# Altium schematic symbol library capacitor.SchLib: 28 symbols
Pins are listed as number, name and electrical type; pins without a type are passive.

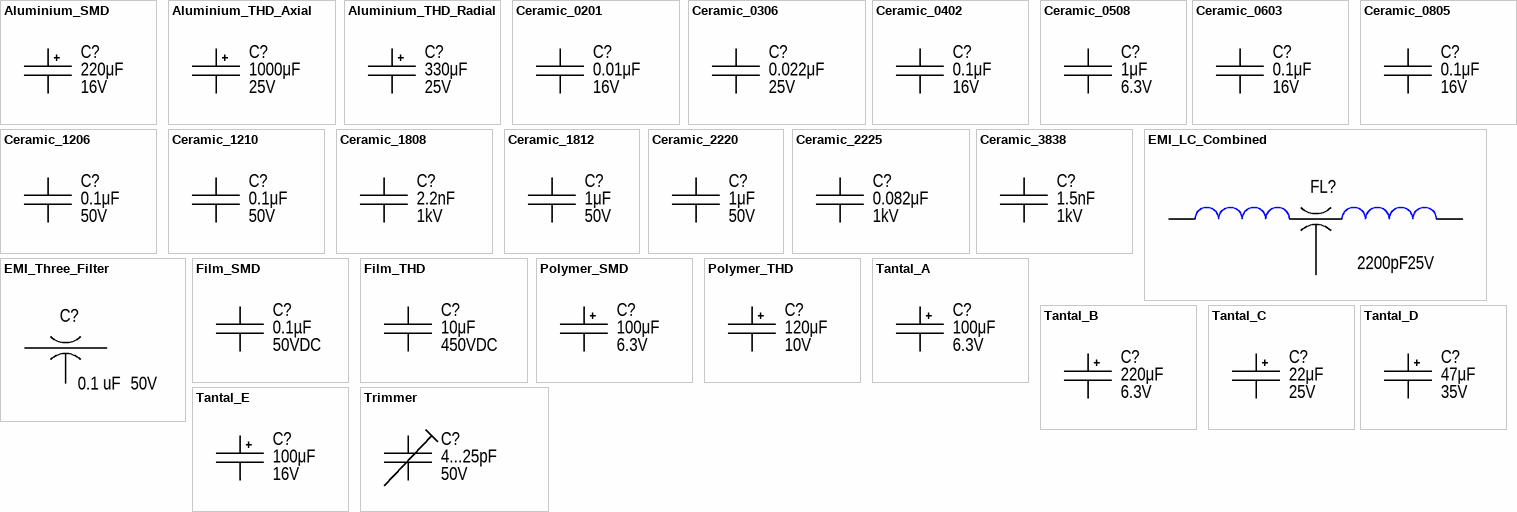
[diagram p0: symbols Aluminium_SMD to Trimmer]

## Aluminium_SMD
designator C?  value 220μF  Voltage: 16V
Manufacturer: Panasonic; PartNumber: EEE-FP1C221AV; ValueManufacturerPartNumber: Aluminium capacitor, 220μF, 16V, ±20%, 180mOhm, 8.3x8.3x6.5mm, -55...+105°C; TypeCapacitor: Aluminium capacitor; Tolerance: ±20%; Impedance: 180mOhm; Package: 8.3x8.3x6.5mm; HelpURL: https://www.mouser.com/ProductDetail/Panasonic/EEE-FP1C221AV?qs=PzGy0jfpSMsiLAFC1mqhUg%3D%3D; Temperature: -55...+105°C
footprint CAPAE_LW4.3_D4.0_H5.4 (Capacitor, Aluminium Electrolytric, 4.3mm L X 4.3mm W X 5.4mm H, IPC Medium Density)
footprint CAPAE_LW5.3_D5.0_H5.4 (Capacitor, Aluminium Electrolytric, 5.3mm L X 5.3mm W X 5.4mm H, IPC Medium Density)
footprint CAPAE_LW6.6_D6.3_H5.4 (Capacitor, Aluminium Electrolytric, 6.6mm L X 6.6mm W X 5.4mm H, IPC Medium Density)
footprint CAPAE_LW8.3_D8.0_H6.2 (Capacitor, Aluminium Electrolytric, 8.3mm L X 8.3mm W X 6.2mm H, IPC Medium Density)
footprint CAPAE_LW8.3_D8.0_H10.2 (Capacitor, Aluminium Electrolytric, 8.3mm L X 8.3mm W X 10.2mm H, IPC Medium Density)
footprint CAPAE_LW10.3_D10.0_H10.2 (Capacitor, Aluminium Electrolytric, 10.3mm L X 10.3mm W X 10.2mm H, IPC Medium Density)
footprint CAPAE_LW10.3_D10.0_H12.7 (Capacitor, Aluminium Electrolytric, 10.3mm L X 10.3mm W X 12.7mm H, IPC Medium Density)
footprint CAPAE_LW13.5_D12.5_H14.3 (Capacitor, Aluminium Electrolytric, 13.5mm L X 13.5mm W X 14.3mm H, IPC Medium Density)
footprint CAPAE_LW17.0_D16.0_H16.8 (Capacitor,Aluminum Electrolytic; 17.00mm L X 17.00mm W X 16.80mm H , IPC Medium Density)
footprint CAPAE_LW17.0_D16.0_H17 (Capacitor,Aluminum Electrolytic; 17.00mm L X 17.00mm W X 17.00mm H , IPC Medium Density)
footprint CAPAE_LW19.0_D18.0_H16.8 (Capacitor,Aluminum Electrolytic; 19.00mm L X 19.00mm W X 16.80mm H , IPC Medium Density)
footprint CAPAE_LW19.0_D18.0_H17 (Capacitor,Aluminum Electrolytic; 19.00mm L X 19.00mm W X 17.00mm H , IPC Medium Density)
pins: 1, 2

## Aluminium_THD_Axial
designator C?  value 1000μF  Voltage: 25V
Manufacturer: Vishay; PartNumber: MAL212516102E3; ValueManufacturerPartNumber: Aluminium capacitor, 1000μF, 25V, ±20%, 212mOhm, 30x10x35.5 mm, -40...+105°C; TypeCapacitor: Aluminium capacitor; Tolerance: ±20%; Impedance: 212mOhm; Package: 30x10x35.5 mm; HelpURL: https://www.mouser.com/ProductDetail/Vishay-BC-Components/MAL212516102E3?qs=TiOZkKH1s2R9wr5iii%2FqJQ%3D%3D; Temperature: -40...+105°C
footprint CAPAE-A-S15.24-L10.5D5.0 (Capacitor Axial, Pin spacing 15.24mm - Body Length 10.5mm X Body Diameter 5.0mm)
footprint CAPAE-A-S15.24-L10.5D6.3 (Capacitor Axial, Pin spacing 15.24mm - Body Length 10.5mm X Body Diameter 6.3mm)
footprint CAPAE-A-S16.51-L11.5D8.5 (Capacitor Axial, Pin spacing 16.51mm - Body Length 11.5mm X Body Diameter 8.5mm)
footprint CAPAE-A-S19.05-L15.49D5.11 (Capacitor Axial, Pin spacing 19.05mm - Body Length 15.49mm X Body Diameter 5.11mm)
footprint CAPAE-A-S25.4-L18.5D6.9 (Capacitor Axial, Pin spacing 25.4mm - Body Length 18.5mm X Body Diameter 6.9mm)
footprint CAPAE-A-S25.4-L18.5D8.5 (Capacitor Axial, Pin spacing 25.4mm - Body Length 18.5mm X Body Diameter 8.5mm)
footprint CAPAE-A-S35.56-L30.5D10.5 (Capacitor Axial, Pin spacing 35.56mm - Body Length 30.5mm X Body Diameter 10.5mm)
footprint CAPAE-A-S35.56-L30.5D12.5 (Capacitor Axial, Pin spacing 35.56mm - Body Length 30.5mm X Body Diameter 12.5mm)
footprint CAPAE-A-S35.56-L30.5D18.5 (Capacitor Axial, Pin spacing 35.56mm - Body Length 30.5mm X Body Diameter 18.5mm)
footprint CAPAE-A-S38.1-L30.5D13.0 (Capacitor Axial, Pin spacing 38.1mm - Body Length 30.5mm X Body Diameter 13mm)
footprint CAPAE-A-S43.18-L38.0D20.5 (Capacitor Axial, Pin spacing 43.18mm - Body Length 38mm X Body Diameter 20.5mm)
footprint CAPAE-A-S44.7-L39.5D21.5 (Capacitor Axial, Pin spacing 44.7mm - Body Length 39.5mm X Body Diameter 21.5mm)
pins: 1, 2

## Aluminium_THD_Radial
designator C?  value 330μF  Voltage: 25V
Manufacturer: Wurth; PartNumber: 860080475013; ValueManufacturerPartNumber: Aluminium capacitor, 330μF, 25V, ±20%, 54mOhm, 14x10x5 mm, -55...+105°C; TypeCapacitor: Aluminium capacitor; Tolerance: ±20%; Impedance: 54mOhm; Package: 14x10x5 mm; HelpURL: https://www.digikey.com/product-detail/en/wurth-electronics-inc/860080475013/732-9029-1-ND/5728972; Temperature: -55...+105°C
footprint CAPAE-R-S2.0-D5.0H7.0 (Capacitor, Radial, Pin spacing 2.0mm - Body Diameter 5.0mm X Body Height 7mm)
footprint CAPAE-R-S2.0-D5.0H11.0 (Capacitor, Radial, Pin spacing 2.0mm - Body Diameter 5.0mm X Body Height 11mm)
footprint CAPAE-R-S2.0-D5.5H12.5 (Capacitor, Radial, Pin spacing 2.0mm - Body Diameter 5.5mm X Body Height 12.5mm)
footprint CAPAE-R-S2.5-D5.0H11.0 (Capacitor, Radial, Pin spacing 2.5mm - Body Diameter 5.0mm X Body Height 11mm)
footprint CAPAE-R-S2.5-D6.3H11.2 (Capacitor, Radial, Pin spacing 2.5mm - Body Diameter 6.3mm X Body Height 11.2mm)
footprint CAPAE-R-S2.5-D6.8H6.0 (Capacitor, Radial, Pin spacing 2.5mm - Body Diameter 6.8mm X Body Height 6.0mm)
footprint CAPAE-R-S2.5-D6.8H7.8 (Capacitor, Radial, Pin spacing 2.5mm - Body Diameter 6.8mm X Body Height 7.8mm)
footprint CAPAE-R-S2.5-D6.8H10.8 (Capacitor, Radial, Pin spacing 2.5mm - Body Diameter 6.8mm X Body Height 10.8mm)
footprint CAPAE-R-S2.5-D6.8H12.5 (Capacitor, Radial, Pin spacing 2.5mm - Body Diameter 6.8mm X Body Height 12.5mm)
footprint CAPAE-R-S3.5-D8.0H7.0 (Capacitor, Radial, Pin spacing 3.5mm - Body Diameter 8mm X Body Height 7mm)
footprint CAPAE-R-S3.5-D8.0H11.5 (Capacitor, Radial, Pin spacing 3.5mm - Body Diameter 8.0mm X Body Height 11.5mm)
footprint CAPAE-R-S3.5-D8.5H6.0 (Capacitor, Radial, Pin spacing 3.5mm - Body Diameter 8.5mm X Body Height 6.0mm)
footprint CAPAE-R-S3.5-D8.5H7.0 (Capacitor, Radial, Pin spacing 3.5mm - Body Diameter 8.5mm x Body Height 7.0mm)
footprint CAPAE-R-S3.5-D8.5H8.0 (Capacitor, Radial, Pin spacing 3.5mm - Body Diameter 8.5mm x Body Height 8.0mm)
footprint CAPAE-R-S3.5-D8.5H12.5 (Capacitor, Radial, Pin spacing 3.5mm - Body Diameter 8.5mm x Body Height 12.5mm)
footprint CAPAE-R-S3.5-D8.5H13.0 (Capacitor, Radial, Pin spacing 3.5mm - Body Diameter 8.5mm x Body Height 13mm)
footprint CAPAE-R-S3.5-D8.5H16.0 (Capacitor, Radial, Pin spacing 3.5mm - Body Diameter 8.5mm x Body Height 16mm)
footprint CAPAE-R-S3.5-D8.5H16.5 (Capacitor, Radial, Pin spacing 3.5mm - Body Diameter 8.5mm x Body Height 16.5mm)
footprint CAPAE-R-S3.5-D8.5H31.0 (Capacitor, Radial, Pin spacing 3.5mm - Body Diameter 8.5mm x Body Height 31mm)
footprint CAPAE-R-S3.5-D10.5H13.0 (Capacitor, Radial, Pin spacing 3.5mm - Body Diameter 10.5mm X Body Height 13mm)
footprint CAPAE-R-S5.0-D10.0H12.5 (Capacitor, Radial, Pin spacing 5.0mm - Body Diameter 10.0mm X Body Height 12.5mm)
footprint CAPAE-R-S5.0-D10.0H16.0 (Capacitor, Radial, Pin spacing 5.0mm - Body Diameter 10.0mm X Body Height 16.0mm)
footprint CAPAE-R-S5.0-D10.0H16.0-H
footprint CAPAE-R-S5.0-D10.0H20.0
footprint CAPAE-R-S5.0-D10.0H20.0-H
footprint CAPAE-R-S5.0-D10.0H20.5 (Capacitor, Radial, Pin spacing 5.0mm - Body Diameter 10mm X Body Height 20.5mm)
footprint CAPAE-R-S5.0-D10.0H25.0 (Capacitor, Radial, Pin spacing 5.0mm - Body Diameter 10.0mm X Body Height 25.0mm)
footprint CAPAE-R-S5.0-D10.5H8.0 (Capacitor, Radial, Pin spacing 5.0mm - Body Diameter 10.5mm X Body Height 8mm)
footprint CAPAE-R-S5.0-D10.5H11.5 (Capacitor, Radial, Pin spacing 5.0mm - Body Diameter 10.5mm X Body Height 11.5mm)
footprint CAPAE-R-S5.0-D10.5H13.0 (Capacitor, Radial, Pin spacing 5.0mm - Body Diameter 10.5mm (nom) X Body Height 13mm (max))
footprint CAPAE-R-S5.0-D10.5H13.5 (Capacitor, Radial, Pin spacing 5.0mm - Body Diameter 10.5mm X Body Height 13.5mm)
footprint CAPAE-R-S5.0-D10.5H14.0 (Capacitor, Radial, Pin spacing 5.0mm - Body Diameter 10.5mm X Body Height 14mm)
footprint CAPAE-R-S5.0-D10.5H17.5 (Capacitor, Radial, Pin spacing 5.0mm - Body Diameter 10.5mm X Body Height 17.5mm)
footprint CAPAE-R-S5.0-D10.5H21.5 (Capacitor, Radial, Pin spacing 5.0mm - Body Diameter 10.5mm X Body Height 21.5mm)
footprint CAPAE-R-S5.0-D10.5H22.0 (Capacitor, Radial, Pin spacing 5.0mm - Body Diameter 10.5mm X Body Height 22mm)
footprint CAPAE-R-S5.0-D10.5H22.3 (Capacitor, Radial, Pin spacing 5.0mm - Body Diameter 10.5mm X Body Height 22.3mm)
footprint CAPAE-R-S5.0-D13.0H14.0 (Capacitor, Radial, Pin spacing 5.0mm - Body Diameter 13.0mm X Body Height 14mm)
footprint CAPAE-R-S5.0-D13.0H21.5 (Capacitor, Radial, Pin spacing 5.0mm - Body Diameter 13.0mm X Body Height 21.5mm)
footprint CAPAE-R-S5.0-D13.0H22.0 (Capacitor, Radial, Pin spacing 5.0mm - Body Diameter 13.0mm X Body Height 22.0mm)
footprint CAPAE-R-S5.0-D13.0H27.0 (Capacitor, Radial, Pin spacing 5.0mm - Body Diameter 13.0mm X Body Height 27.0mm)
footprint CAPAE-R-S5.0-D13.0H32.0 (Capacitor, Radial, Pin spacing 5.0mm - Body Diameter 13.0mm X Body Height 32.0mm)
footprint CAPAE-R-S5.0-D13.0H36.5 (Capacitor, Radial, Pin spacing 5.0mm - Body Diameter max13.0mm X Body Height max 36.5mm)
footprint CAPAE-R-S5.0-D13.0H37.0 (Capacitor, Radial, Pin spacing 5.0mm - Body Diameter max13.0mm X Body Height max 37.0mm)
footprint CAPAE-R-S5.0-D13.5H22.0 (Capacitor, Radial, Pin spacing 5.0mm - Body Diameter 13.5mm X Body Height 22.0mm)
footprint CAPAE-R-S5.0-D13.5H27.0 (Capacitor, Radial, Pin spacing 5.0mm - Body Diameter 13.5mm X Body Height 27mm)
footprint CAPAE-R-S7.5-D16.0H20.0 (Capacitor, Radial, Pin spacing 7.5mm - Body Diameter 16.0mm X Body  Height 20.0mm)
footprint CAPAE-R-S7.5-D16.5H16.0 (Capacitor, Radial, Pin spacing 7.5mm - Body Diameter 16.5mm X Body  Height 16mm)
footprint CAPAE-R-S7.5-D16.5H21.5 (Capacitor, Radial, Pin spacing 7.5mm - Body Diameter 16.5mm X Body  Height 21.5mm)
footprint CAPAE-R-S7.5-D16.5H22.0 (Capacitor, Radial, Pin spacing 7.5mm - Body Diameter 16.5mm X Body  Height 22.0mm)
footprint CAPAE-R-S7.5-D16.5H26.5 (Capacitor, Radial, Pin spacing 7.5mm - Body Diameter 16.5mm X Body  Height 26.5m)
footprint CAPAE-R-S7.5-D16.5H27.0 (Capacitor, Radial, Pin spacing 7.5mm - Body Diameter 16.5mm X Body  Height 27.0mm)
footprint CAPAE-R-S7.5-D16.5H31.5 (Capacitor, Radial, Pin spacing 7.5mm - Body Diameter 16.5mm X Body  Height 31.5mm)
footprint CAPAE-R-S7.5-D16.5H33.0 (Capacitor, Radial, Pin spacing 7.5mm - Body Diameter 16.5mm X Body  Height 33mm)
footprint CAPAE-R-S7.5-D16.5H33.5 (Capacitor, Radial, Pin spacing 7.5mm - Body Diameter 16.5mm X Body  Height 33.5mm)
footprint CAPAE-R-S7.5-D16.5H34.0 (Capacitor, Radial, Pin spacing 7.5mm - Body Diameter 16.5mm X Body  Height 34mm)
footprint CAPAE-R-S7.5-D16.5H41.5 (Capacitor, Radial, Pin spacing 7.5mm - Body Diameter 16.5mm X Body  Height 41.5mm)
footprint CAPAE-R-S7.5-D16.5H42.0 (Capacitor, Radial, Pin spacing 7.5mm - Body Diameter 16.5mm X Body  Height 42mm)
footprint CAPAE-R-S7.5-D18.0H25.0
footprint CAPAE-R-S7.5-D18.0H32
footprint CAPAE-R-S7.5-D18.0H32.0-H
footprint CAPAE-R-S7.5-D18.5H21.5 (Capacitor, Radial, Pin spacing 7.5mm - Body Diameter 18.5mm X Body  Height 21.5mm)
footprint CAPAE-R-S7.5-D18.5H22.0 (Capacitor, Radial, Pin spacing 7.5mm - Body Diameter 18.5mm X Body  Height 22.0mm)
footprint CAPAE-R-S7.5-D18.5H26.5 (Capacitor, Radial, Pin spacing 7.5mm - Body Diameter 18.5mm X Body  Height 26.5mm)
footprint CAPAE-R-S7.5-D18.5H33.0 (Capacitor, Radial, Pin spacing 7.5mm - Body Diameter 18.5mm X Body  Height 33.0mm)
footprint CAPAE-R-S7.5-D18.5H33.5 (Capacitor, Radial, Pin spacing 7.5mm - Body Diameter 18.5mm X Body  Height 33.5mm)
footprint CAPAE-R-S7.5-D18.5H37.5 (Capacitor, Radial, Pin spacing 7.5mm - Body Diameter 18.5mm X Body  Height 37.5mm)
footprint CAPAE-R-S7.5-D18.5H42.0 (Capacitor, Radial, Pin spacing 7.5mm - Body Diameter 18.5mm X Body  Height 42mm)
footprint CAPAE-R-S7.5-D18.5H45.0 (Capacitor, Radial, Pin spacing 7.5mm - Body Diameter 18.5mm X Body  Height 45mm)
footprint CAPAE-R-S10.0-D23.0H37.0 (Capacitor, Radial, Pins spacing 10mm - Body Diameter 23mm X Body  Height 37mm)
footprint CAPAE-R-S10.0-D23.0H42.0 (Capacitor, Radial, Pins spacing 10mm - Body Diameter 23mm X Body  Height 42mm)
footprint CAPAE-R-S10.0-D26.0H22.0 (Capacitor, Radial, Pins spacing 10mm - Body Diameter 26.0mm X Body  Height 22.0mm)
footprint CAPAE-R-S10.0-D26.0H32.0 (Capacitor, Radial, Pins spacing 10mm - Body Diameter 26.0mm X Body  Height 32.0mm)
footprint CAPAE-R-S10.0-D26.0H42.0 (Capacitor, Radial, Pins spacing 10mm - Body Diameter 26.0mm X Body  Height 42.0mm)
footprint CAPAE-R-S10.0-D26.4H32.2 (Capacitor, Radial, Pins spacing 10mm - Body Diameter 26.4.0mm X Body  Height 32.2mm)
footprint CAPAE-R-S10.0-D26.4H37.2 (Capacitor, Radial, Pins spacing 10mm - Body Diameter 26.4.0mm X Body  Height 37.2mm)
footprint CAPAE-R-S10.0-D31.0H27.0 (Capacitor, Radial, Pin spacing 10.0mm - Body Diameter 31.0mm X Body  Height 27.0mm)
footprint CAPAE-R-S10.0-D31.0H32.0 (Capacitor, Radial, Pin spacing 10.0mm - Body Diameter 31.0mm X Body  Height 32.0mm)
footprint CAPAE-R-S10.0-D31.0H42.0 (Capacitor, Radial, Pin spacing 10.0mm - Body Diameter 31.0mm X Body  Height 42.0mm)
footprint CAPAE-R-S10.0-D36.0H42.0 (Capacitor, Radial, Leads spacing 10mm - Body Diameter 36.0mm X Body  Height 42.0mm)
footprint CAPAE-R-S10.0-D36.0H47.0 (Capacitor, Radial, Leads spacing 10mm - Body Diameter 36.0mm X Body  Height 47.0mm)
footprint CAPAE-R-S10.0-D36.0H52.0 (Capacitor, Radial, Leads spacing 10mm - Body Diameter 36.0mm X Body  Height 52.0mm)
footprint CAPAE-R-S10.0-D36.4H57.2 (Capacitor, Radial, Leads spacing 10mm - Body Diameter 36.4mm X Body  Height 57.2mm)
pins: 1, 2

## Ceramic_0201
designator C?  value 0.01μF  Voltage: 16V
Manufacturer: Yageo; PartNumber: CC0201KRX7R7BB103; ValueManufacturerPartNumber: Ceramic capacitor, 0.01μF, X7R, ±10%, 16V, 0201, -55...+125°C; TypeCapacitor: Ceramic capacitor; Tolerance: ±10%; TypeDielectric: X7R; Package: 0201; HelpURL: https://www.digikey.com/product-detail/en/yageo/CC0201KRX7R7BB103/311-1404-1-ND/2833710; Temperature: -55...+125°C
footprint CAPC_0201_H0.33 (Chip Capacitor, Body 0.6x0.30mm, IPC Medium Density)
footprint CAPC_0201
pins: 1, 2

## Ceramic_0306
designator C?  value 0.022μF  Voltage: 25V
Manufacturer: Murata; PartNumber: LLL03TR61E223KE01L; ValueManufacturerPartNumber: Ceramic capacitor, 0.022μF, X5R, ±10%, 25V, 0306, -55...+85°C; TypeCapacitor: Ceramic capacitor; Tolerance: ±10%; TypeDielectric: X5R; Package: 0306; HelpURL: https://www.mouser.com/ProductDetail/Murata-Electronics/LLL03TR61E223KE01L?qs=sGAEpiMZZMvsSlwiRhF8qtsGU%2FCnaNeQFYjKWNkpnsHVuIh7058Gog%3D%3D; Temperature: -55...+85°C
footprint CAPC_0306_H0.55 (Capacitor, Non-Polarized, Chip; 0.80mm L X 1.60mm W X 0.55mm H, IPC Medium Density)
pins: 1, 2

## Ceramic_0402
designator C?  value 0.1μF  Voltage: 16V
Manufacturer: Yageo; PartNumber: CC0402KRX7R7BB104; ValueManufacturerPartNumber: Ceramic capacitor, 0.1μF, X7R, ±10%, 16V, 0402, -55...+125°C; TypeCapacitor: Ceramic capacitor; Tolerance: ±10%; TypeDielectric: X7R; Package: 0402; HelpURL: https://www.digikey.com/product-detail/en/yageo/CC0402KRX7R7BB104/311-1338-1-ND/2103122; Temperature: -55...+125°C
footprint CAPC_0402_H0.50 (Capacitor, Non-Polarized, Chip; 1.00mm L X 0.50mm W X 0.70mm H, IPC Medium Density)
footprint CAPC_0402_H0.61 (Capacitor, Non-Polarized, Chip; 1.02mm L X 0.51mm W X 0.61mm H, IPC Medium Density)
footprint CAPC_0402_H0.70 (Capacitor, Non-Polarized, Chip; 1.00mm L X 0.50mm W X 0.70mm H, IPC Medium Density)
footprint CAPC_0402
pins: 1, 2

## Ceramic_0508
designator C?  value 1μF  Voltage: 6.3V
Manufacturer: Murata; PartNumber: LLL219R70J105MA01L; ValueManufacturerPartNumber: Ceramic capacitor, 1μF, X7R, ±20%, 6.3V, 0508, -55...+125°C; TypeCapacitor: Ceramic capacitor; Tolerance: ±20%; TypeDielectric: X7R; Package: 0508; HelpURL: https://www.mouser.com/ProductDetail/Murata-Electronics/LLL219R70J105MA01L?qs=sGAEpiMZZMvsSlwiRhF8qm3%252BRb%2Fw74Y37i2iqzPEwRg%3D; Temperature: -55...+125°C
footprint CAPC_0508_H0.95 (Capacitor, Non-Polarized,Chip 0508 1220;1.25mm L X 2.00mm W X 0.95mm H, IPC Medium Density)
pins: 1, 2

## Ceramic_0603
designator C?  value 0.1μF  Voltage: 16V
Manufacturer: Yageo; PartNumber: CC0603KRX7R7BB104; ValueManufacturerPartNumber: Ceramic capacitor, 0.1μF, X7R, ±10%, 16V, 0603, -55...+125°C; TypeCapacitor: Ceramic capacitor; Tolerance: ±10%; TypeDielectric: X7R; Package: 0603; HelpURL: https://www.digikey.com/product-detail/en/yageo/CC0603KRX7R7BB104/311-1088-1-ND/302998; Temperature: -55...+125°C
footprint CAPC_0603_H0.60 (Chip Capacitor, Body 1.6x0.8mm IPC Medium Density)
footprint CAPC_0603_H0.80 (Chip Capacitor, Body 1.6x0.8mm IPC Medium Density)
footprint CAPC_0603_H0.85 (Chip Capacitor, Body 1.6x0.8mm IPC Medium Density)
footprint CAPC_0603_H0.87 (Chip Capacitor, Body 1.6x0.8mm IPC Medium Density)
footprint CAPC_0603_H0.90 (Chip Capacitor, Body 1.6x0.8mm IPC Medium Density)
footprint CAPC_0603_H1.0 (Capacitor, non-Polarized, Chip; 1.60mm L X 0.80mm W X 1.00mm H, IPC Medium Density)
footprint CAPC_0603
pins: 1, 2

## Ceramic_0805
designator C?  value 0.1μF  Voltage: 16V
Manufacturer: Yageo; PartNumber: CC0805KRX7R7BB104; ValueManufacturerPartNumber: Ceramic capacitor, 0.1μF, X7R, ±10%, 16V, 0805, -55...+125°C; TypeCapacitor: Ceramic capacitor; Tolerance: ±10%; TypeDielectric: X7R; Package: 0805; HelpURL: https://www.digikey.com/product-detail/en/yageo/CC0805KRX7R7BB104/311-1142-1-ND/303052; Temperature: -55...+125°C
footprint CAPC_0805_H0.75 (Chip Capacitor, Body 2.0x1.25mm, IPC Medium Density)
footprint CAPC_0805_H0.88 (Chip Capacitor, Body 2.0x1.25mm, IPC Medium Density)
footprint CAPC_0805_H0.90 (Chip Capacitor, Body 2.0x1.25mm, IPC Medium Density)
footprint CAPC_0805_H0.95 (Chip Capacitor, Body 2.0x1.25mm, IPC Medium Density)
footprint CAPC_0805_H1.1 (Chip Capacitor, Body 2.0x1.25mm, IPC Medium Density)
footprint CAPC_0805_H1.35 (Chip Capacitor, Body 2.0x1.25mm, IPC Medium Density)
footprint CAPC_0805_H1.4 (Chip Capacitor, Body 2.0x1.25mm, IPC Medium Density)
footprint CAPC_0805_H1.45 (Chip Capacitor, Body 2.0x1.45mm, IPC Medium Density)
footprint CAPC_0805
pins: 1, 2

## Ceramic_1206
designator C?  value 0.1μF  Voltage: 50V
Manufacturer: Yageo; PartNumber: CC1206KRX7R9BB104; ValueManufacturerPartNumber: Ceramic capacitor, 0.1μF, X7R, ±10%, 50V, 1206, -55...+125°C; TypeCapacitor: Ceramic capacitor; Tolerance: ±10%; TypeDielectric: X7R; Package: 1206; HelpURL: https://www.digikey.com/product-detail/en/yageo/CC1206KRX7R9BB104/311-1179-1-ND/303089; Temperature: -55...+125°C
footprint CAPC_1206_H0.70 (Chip Capacitor, Body 3.2x1.6mm, IPC Medium Density)
footprint CAPC_1206_H0.88 (Chip Capacitor, Body 3.2x1.6mm, IPC Medium Density)
footprint CAPC_1206_H0.94 (Chip Capacitor, Body 3.2x1.6mm, IPC Medium Density)
footprint CAPC_1206_H1.0 (Chip Capacitor, Body 3.2x1.6mm, IPC Medium Density)
footprint CAPC_1206_H1.1 (Chip Capacitor, Body 3.2x1.6mm, IPC Medium Density)
footprint CAPC_1206_H1.2 (Chip Capacitor, Body 3.2x1.6mm, IPC Medium Density)
footprint CAPC_1206_H1.25 (Capacitor, Non-Polarized, Chip; 3.20mm L X 1.60mm W X 1.25mm H, IPC Medium Density)
footprint CAPC_1206_H1.3 (Chip Capacitor, Body 3.2x1.6mm, IPC Medium Density)
footprint CAPC_1206_H1.4 (Chip Capacitor, Body 3.2x1.6mm, IPC Medium Density)
footprint CAPC_1206_H1.52 (Chip Capacitor, Body 3.2x1.6mm, IPC Medium Density)
footprint CAPC_1206_H1.8 (Chip Capacitor, Body 3.2x1.6mm, IPC Medium Density)
footprint CAPC_1206_H1.9 (Chip Capacitor, Body 3.2x1.6mm, IPC Medium Density)
footprint CAPC_1206
pins: 1, 2

## Ceramic_1210
designator C?  value 0.1μF  Voltage: 50V
Manufacturer: Yageo; PartNumber: CC1210KKX7R9BB104; ValueManufacturerPartNumber: Ceramic capacitor, 0.1μF, X7R, ±10%, 50V, 1210, -55...+125°C; TypeCapacitor: Ceramic capacitor; Tolerance: ±10%; TypeDielectric: X7R; Package: 1210; HelpURL: https://www.digikey.com/product-detail/en/yageo/CC1210KKX7R9BB104/311-4522-1-ND/8025611; Temperature: -55...+125°C
footprint CAPC_1210_H1.05 (Chip Capacitor, Body 3.2x2.5mm, IPC Medium Density)
footprint CAPC_1210_H1.4 (Chip Capacitor, Body 3.2x2.5mm, IPC Medium Density)
footprint CAPC_1210_H1.6 (Chip Capacitor, Body 3.2x2.5mm, IPC Medium Density)
footprint CAPC_1210_H1.68 (Chip Capacitor, Body 3.2x2.5mm, IPC Medium Density)
footprint CAPC_1210_H1.7 (Chip Capacitor, Body 3.2x2.5mm, IPC Medium Density)
footprint CAPC_1210_H2.0 (Chip Capacitor, Body 3.2x2.5mm, IPC Medium Density)
footprint CAPC_1210_H2.05 (Chip Capacitor, Body 3.2x2.5mm, IPC Medium Density)
footprint CAPC_1210_H2.1 (Chip Capacitor, Body 3.2x2.5mm, IPC Medium Density)
footprint CAPC_1210_H2.3 (Chip Capacitor, Body 3.2x2.5mm, IPC Medium Density)
footprint CAPC_1210_H2.7 (Chip Capacitor, Body 3.2x2.5mm, IPC Medium Density)
footprint CAPC_1210_H2.8 (Chip Capacitor, Body 3.2x2.5mm, IPC Medium Density)
footprint CAPC_1210
pins: 1, 2

## Ceramic_1808
designator C?  value 2.2nF  Voltage: 1kV
Manufacturer: Murata; PartNumber: GRM42QR73A222KW21L; ValueManufacturerPartNumber: Ceramic capacitor, 2.2nF, X7R, ±10%, 1kV, 1808, -55...+125°C; TypeCapacitor: Ceramic capacitor; Tolerance: ±10%; TypeDielectric: X7R; Package: 1808; HelpURL: https://www.mouser.com/ProductDetail/Murata-Electronics/GRM42QR73A222KW21L?qs=ayrken4%252BDoDJQLVDLorvtg%3D%3D; Temperature: -55...+125°C
footprint CAPC_1808_H1.5 (Capacitor, Non-Polarized, Chip;4.50mm L X 2.00mm W X 1.50mm H, IPC Medium Density)
pins: 1, 2

## Ceramic_1812
designator C?  value 1μF  Voltage: 50V
Manufacturer: Yageo; PartNumber: CC1812KKX7R9BB105; ValueManufacturerPartNumber: Ceramic capacitor, 1μF, X7R, ±10%, 50V, 1812, -55...+125°C; TypeCapacitor: Ceramic capacitor; Tolerance: ±10%; TypeDielectric: X7R; Package: 1812; HelpURL: https://www.digikey.com/product-detail/en/yageo/CC1812KKX7R9BB105/311-2068-1-ND/5195970; Temperature: -55...+125°C
footprint CAPC_1812_H1.1 (Chip Capacitor, 2-Leads, Body 4.5x3.2mm, IPC Medium Density)
footprint CAPC_1812_H1.65 (Capacitor, Non-Polarized, Chip; 4.50mm L X 3.20mm W X 1.65mm H, IPC Medium Density)
footprint CAPC_1812_H1.85 (Chip Capacitor, 2-Leads, Body 4.5x3.2mm, IPC Medium Density)
footprint CAPC_1812_H2.18 (Chip Capacitor, 2-Leads, Body 4.5x3.2mm, IPC Medium Density)
footprint CAPC_1812_H2.2 (Capacitor, Non-Polarized, Chip; 4.50mm L X 3.20mm W X 2.20mm H, IPC Medium Density)
footprint CAPC_1812_H2.5 (Chip Capacitor, 2-Leads, Body 4.5x3.2mm, IPC Medium Density)
footprint CAPC_1812_H3.5 (Chip Capacitor, 2-Leads, Body 4.5x3.2mm, IPC Medium Density)
footprint CAPC_1812
pins: 1, 2

## Ceramic_2220
designator C?  value 1μF  Voltage: 50V
Manufacturer: Yageo; PartNumber: CC2220KKX7R9BB105; ValueManufacturerPartNumber: Ceramic capacitor, 1μF, X7R, ±10%, 50V, 2220, -55...+125°C; TypeCapacitor: Ceramic capacitor; Tolerance: ±10%; TypeDielectric: X7R; Package: 2220; HelpURL: https://www.digikey.com/product-detail/en/yageo/CC2220KKX7R9BB105/311-2069-1-ND/5195971; Temperature: -55...+125°C
footprint CAPC_2220_H1.65 (Chip Capacitor, 2-Leads,Body 5.6x5mm, IPC Medium Density)
footprint CAPC_2220_H2.0 (Chip Capacitor, 2-Leads, Body 5.7x5.0mm, IPC Medium Density)
footprint CAPC_2220_H2.5 (Chip Capacitor, 2-Leads, Body 5.7x5.0mm, IPC Medium Density)
footprint CAPC_2220_H2.7 (Chip Capacitor, 2-Leads, Body 5.7x5.0mm, IPC Medium Density)
footprint CAPC_2220_H2.79 (Chip Capacitor, 2-Leads, Body 5.7x5.0mm, IPC Medium Density)
footprint CAPC_2220_H3.3 (Chip Capacitor, 2-Leads, Body 5.7x5.0mm, IPC Medium Density)
footprint CAPC_2220_H3.4 (Chip Capacitor, 2-Leads, Body 5.7x5.0mm, IPC Medium Density)
footprint CAPC_2220
pins: 1, 2

## Ceramic_2225
designator C?  value 0.082μF  Voltage: 1kV
Manufacturer: KEMET; PartNumber: C2225X823KDRACTU; ValueManufacturerPartNumber: Ceramic capacitor, 0.082μF, X7R, ±10%, 1kV, 2225, -55...+125°C; TypeCapacitor: Ceramic capacitor; Tolerance: ±10%; TypeDielectric: X7R; Package: 2225; HelpURL: https://www.mouser.com/ProductDetail/KEMET/C2225X823KDRACTU?qs=QNEnbhJQKvZump3DBFkeiw%3D%3D; Temperature: -55...+125°C
footprint CAPC_2225_H2.79 (Capacitor, Non-Polarized, Chip; 5.72mm L X 6.35mm W X 2.794mm H, IPC Medium Density)
pins: 1, 2

## Ceramic_3838
designator C?  value 1.5nF  Voltage: 1kV
Manufacturer: Kyocera AVX; PartNumber: HQLEAM152KAM6A; ValueManufacturerPartNumber: Ceramic capacitor, 1.5nF, P90, ±10%, 1kV, 3838, -55...+125°C; TypeCapacitor: Ceramic capacitor; Tolerance: ±10%; TypeDielectric: P90; Package: 3838; HelpURL: https://www.mouser.com/ProductDetail/Kyocera-AVX/HQLEAM152KAM6A?qs=YOzjcb9mJsYJOO9D9KpHdQ%3D%3D; Temperature: -55...+125°C
footprint CAPC_3838_H4.32 (Capacitor, Non-Polarized, Chip; 10.03mm L X 9.9mm W X 4.32mm H)
pins: 1, 2

## EMI_LC_Combined
designator FL?  value 2200pF  Voltage: 25V
Manufacturer: Murata; PartNumber: NFE31PT222Z1E9L; ValueManufacturerPartNumber: Chip Capacitor Block LC Combined Type, 3.2x1.6x1.6mm, 2200pF, ±50%, 25V, 6A; TypeCapacitor: Chip Capacitor Block LC Combined Type; Current: 6A; Tolerance: ±50%; Package: 3.2x1.6x1.6mm; HelpURL: https://www.digikey.com/en/products/detail/murata-electronics/NFE31PT222Z1E9L/599939?s=N4IgTCBcDaIHIDECiBmAjABQCplwLTSQE4AZEAXQF8g
footprint FIL_MURATA_NFE31PT (6A EMIFIL LC Combined Type for Large Current)
footprint FIL_MURATA_NFE61P (EMI Filter, Body 6.8mm X 1.6mm, MURATA NFE61P Serie)
footprint FIL_MURATA_NFL18ST (EMIFIL Chip Capacitor, Body 1.6x0.8mm, MURATA NFL18ST Series)
pins: 1, 2, 3

## EMI_Three_Filter
designator C?  value 0.1 uF  Voltage: 50V
Manufacturer: Murata; PartNumber: NFM31KC104R1H3L; ValueManufacturerPartNumber: Three Terminal Filter Capacitors, 1206, 0.1 uF, ±20%, 50V, 6A; TypeCapacitor: Three Terminal Filter Capacitors; Current: 6A; Tolerance: ±20%; Package: 1206; HelpURL: https://www.digikey.com/en/products/detail/murata-electronics/NFM31KC104R1H3L/4906113?s=N4IgTCBcDaIHIDECyBmAjAaQMJoAwBYAlNACRQBkQBdAXyA
footprint FIL_MURATA_NFM3DC_1206 (EMIFIL Chip Capacitor, Body 3.2x1.25mm, MURATA NFM3DC Serie)
footprint FIL_MURATA_NFM18PC_0603 (EMIFIL Chip Capacitor, Body 1.6x0.8mm, MURATA NFM18PC Serie)
footprint FIL_MURATA_NFM21PC_0805 (EMIFIL Chip Capacitor, Body 2.0x1.25mm, MURATA NFM21PC Serie)
footprint FIL_MURATA_NFM31KC_1206 (EMIFIL Chip Capacitor, Body 3.2x1.6mm, MURATA NFM31KC Serie)
footprint FIL_MURATA_NFM41PC_1806
pins: 1, 2, 3

## Film_SMD
designator C?  value 0.1µF  Voltage: 50VDC
Manufacturer: Panasonic Electronic Components; PartNumber: ECH-U1H104JX9; ValueManufacturerPartNumber: Film capacitor, 0.1µF, 50VDC, ±5%, *, 1913, -55...+125°C; TypeCapacitor: Film capacitor; Tolerance: ±5%; Package: 1913; HelpURL: https://www.digikey.com/product-detail/en/panasonic-electronic-components/ECH-U1H104JX9/PCF1561CT-ND/1630924; Temperature: -55...+125°C; Impedance: *
footprint PAN_ECHU_X_D_2416_H2.8
footprint PAN_ECHU_X_E_1913_H2.1
footprint PAN_ECHU_X_G_1210_H2.1
footprint PAN_ECHU_X_H_1206_H1.5
footprint PAN_ECHU_X_J_0805_H1.1
footprint PAN_ECHU_X_K_0603_H0.7
footprint WIMA_PPS_1812_H3.0 (Chip Capacitor, 2-Leads, Body 4.8x3.3mm, IPC Medium Density)
footprint WIMA_PPS_1812_H4.0 (Capacitor, Non-Polarized, Chip; 4.80mm L X 3.30mm W X 4.30mm H, IPC Medium Density)
footprint WIMA_PPS_2220_H4.5 (Chip Capacitor, 2-Leads,Body 5.7x5.1mm, IPC Medium Density)
footprint WIMA_PPS_2824_H3.0 (Capacitor, Non-Polarized, Chip; 7.2mm L X 6.1mm W X 3mm H)
footprint WIMA_PPS_2824_H5.0 (Capacitor, Non-Polarized, Chip; 7.2mm L X 6.1mm W X 5mm H)
pins: 1, 2

## Film_THD
designator C?  value 10μF  Voltage: 450VDC
Manufacturer: Epcos; PartNumber: B32774D4106K000; ValueManufacturerPartNumber: Film capacitor, 10μF, 450VDC, ±10%, 10.9mOhm, 31.5x15 mm, -40...+105°C; TypeCapacitor: Film capacitor; Tolerance: ±10%; Impedance: 10.9mOhm; Package: 31.5x15 mm; HelpURL: https://www.digikey.com/products/en/capacitors/film-capacitors/62?k=&pkeyword=&sv=0&pv2097=1958&sf=0&FV=fffc01ef%2C1f140000%2Cffe0003e%2Cffec6366&quantity=1&ColumnSort=1000011&page=1&stock=1&pageSize=25; Temperature: -40...+105°C
footprint CAP: AY2102M29Y5US63L7
footprint CAP: B32521
footprint CAP: B32522
footprint CAP: B32653A
footprint CAP: B32654
footprint CAP: B32674
footprint CAP: B32676
footprint CAP: B32774D (w=15mm)
footprint CAP: B32774D (w=22mm)
footprint CAP: MKP1848S
footprint CAP: VY2
footprint CAP: PHE845VD5220MR30L2
footprint CAP: B32923 (26.5x12x22 mm)
footprint CAP: B32021 (13x5x10 mm)
footprint CAP: B32922 (18x5x15 mm)
footprint CAP: B32922 (18x7x12.5mm)
footprint CAP: FKP2 (W=4.5MM)
footprint CAP: FKP2 (W=5.5MM)
footprint CAP: MKS2 (W=2.50MM)
footprint CAP: MKS2 (W=3.50MM)
footprint CAPF-R-K71-7-S5.0-L10W7.0H14.0 (Capacitor K71-7, 1000-4000pF, 550pF, Radial, Pin spacing 5.0mm - Length 10.0mm Width 7.0mm Height 14.0mm)
footprint CAPF-R-K71-7-S10.0-L16W6.0H12.0 (Capacitor K71-7, 4000pF - 0.014uF, Radial, Pin spacing 10.0mm - Length 16.0mm Width 6.0mm Height 12.0mm)
footprint CAPF-R-K71-7-S10.0-L21W9.0H16.0 (Capacitor K71-7, 0.03 - 0.05uF, Radial, Pin spacing 10.0mm - Length 21.0mm Width 9.0mm Height 16.0mm)
footprint CAPF-R-K71-7-S10.0-L26W9.0H17.0 (Capacitor K71-7, 0.05 - 0.10uF, Radial, Pin spacing 10.0mm - Length 26.0mm Width 9.0mm Height 17.0mm)
footprint CAPF-R-K71-7-S10.0-L26W10.0H19.0 (Capacitor K71-7, 0.1 - 0.15uF, Radial, Pin spacing 10.0mm - Length 26.0mm Width 10.0mm Height 19.0mm)
footprint CAPF-R-K71-7-S10.0-L26W11.0H21.0 (Capacitor K71-7, 0.15 - 0.20uF, Radial, Pin spacing 10.0mm - Length 26.0mm Width 11.0mm Height 21.0mm)
footprint CAPF-R-K71-7-S10.0-L26W12.0H24.0 (Capacitor K71-7, 0.20 - 0.30uF, Radial, Pin spacing 10.0mm - Length 26.0mm Width 12.0mm Height 24.0mm)
footprint CAPF-R-K71-7-S10.0-L26W14.0H28.0 (Capacitor K71-7, 0.30 - 0.40uF, Radial, Pin spacing 10.0mm - Length 26.0mm Width 14.0mm Height 28.0mm)
footprint CAPF-R-K71-7-S10.0-L26W16.0H32.0 (Capacitor K71-7, 0.40 – 0.5uF, Radial, Pin spacing 10.0mm - Length 26.0mm Width 16.0mm Height 32.0mm)
pins: 1, 2

## Polymer_SMD
designator C?  value 100μF  Voltage: 6.3V
Manufacturer: Panasonic; PartNumber: EEF-CX0J101R; ValueManufacturerPartNumber: Electrolytic Capacitors, 100μF, 6.3V, ±20%, 15mOhm, 7.3x4.3x2.0mm, -55...+105°C; ESR: 15mOhm; Tolerance: ±20%; TypeDielectric: SP-Cap; TypeCapacitor: Electrolytic Capacitors; Package: 7.3x4.3x2.0mm; HelpURL: https://www.digikey.com/en/products/detail/panasonic-electronic-components/EEF-CX0J101R/816418?s=N4IgTCBcDaIAQFEEDEC0BhAGgBgFIEZt8AlEAXQF8g; Temperature: -55...+105°C
footprint PAN_PCAP_CX_GX_SX_HX
footprint CAPMP_1206_H1.0 (Capacitor, Polarized, Molded  Body 3.2x1.6mm, IPC Medium Density)
footprint CAPMP_1206_H1.8 (Capacitor, Polarized, Molded  Body 3.2x1.6mm, IPC Medium Density)
footprint CAPMP_1411_H1.2 (Capacitor, Polarized, Molded  Body 3.5x2.8mm, IPC Medium Density)
footprint CAPMP_1411_H2.1 (Capacitor, Polarized, Molded  Body 3.5x2.8mm, IPC Medium Density)
footprint CAPMP_2312_H2.8 (Capacitor, Polarized, Molded  Body 6.0x3.2mm, IPC Medium Density)
footprint CAPMP_2917_H1.9 (Capacitor, Polarized, Molded  Body 7.3x4.3mm, IPC Medium Density)
footprint CAPMP_2917_H2.0 (Capacitor, Polarized, Molded  Body 7.3x4.3mm, IPC Medium Density)
footprint CAPMP_2917_H3.1 (Capacitor, Polarized, Molded  Body 7.3x4.3mm, IPC Medium Density)
footprint CAPMP_2917_H4.3 (Capacitor, Polarized, Molded  Body 7.3x4.3mm, IPC Medium Density)
pins: 1, 2

## Polymer_THD
designator C?  value 120μF  Voltage: 10V
Manufacturer: Panasonic; PartNumber: 10SEQP120M; ValueManufacturerPartNumber: Aluminum Polymer Capacitors, 120μF, 10V, ±20%, 35mOhm, 8.0x7.0x3.5mm, -55...+105°C; ESR: 35mOhm; Tolerance: ±20%; TypeDielectric: OS-CON; TypeCapacitor: Aluminum Polymer Capacitors; Package: 8.0x7.0x3.5mm; HelpURL: https://www.mouser.com/ProductDetail/Panasonic/10SEQP120M?qs=gmLfwMdqxeLPhOSxoGTa6w%3D%3D; Temperature: -55...+105°C
footprint CAPAP-R-S2.5-D6.8H8.0 (Capacitor, Radial, Pin spacing 2.5mm - Body Diameter 6.8mm X Body Height 7mm)
footprint CAPAP-R-S3.5-D8.5H7.0 (Capacitor, Radial, Pin spacing 3.5mm - Body Diameter 8.5mm x Body Height 7.0mm)
footprint CAPAP-R-S3.5-D8.5H9.0 (Capacitor, Radial, Pin spacing 3.5mm - Body Diameter 8.5mm x Body Height 9.0mm)
footprint CAPAP-R-S3.5-D8.5H13.0 (Capacitor, Radial, Pin spacing 3.5mm - Body Diameter 8.5mm x Body Height 13mm)
footprint CAPAP-R-S5.0-D10.5H13.0 (Capacitor, Radial, Pin spacing 5.0mm - Body Diameter 10.5mm (nom) X Body Height 13mm (max))
footprint CAPAP-R-S5.0-D10.5H14.0 (Capacitor, Radial, Pin spacing 5.0mm - Body Diameter 10.5mm X Body Height 14mm)
footprint CAPAP-R-S5.0-D10.5H22.0 (Capacitor, Radial, Pin spacing 5.0mm - Body Diameter 10.5mm X Body Height 22mm)
pins: 1, 2

## Tantal_A
designator C?  value 100μF  Voltage: 6.3V
Manufacturer: AVX; PartNumber: F930J107KAAAJ6; ValueManufacturerPartNumber: Tantalum capacitor, 100μF, 6.3V, ±10%, 2Ohm, case A (3216), -55...+125°C; Impedance: 2Ohm; Tolerance: ±10%; TypeDielectric: X7R; TypeCapacitor: Tantalum capacitor; Package: case A (3216); HelpURL: https://www.digikey.com/product-detail/en/avx-corporation/F930J107KAAAJ6/478-12404-1-ND/9645231; Temperature: -55...+125°C
footprint CAPT_A
pins: 1, 2

## Tantal_B
designator C?  value 220μF  Voltage: 6.3V
Manufacturer: AVX; PartNumber: F930J227KBA; ValueManufacturerPartNumber: Tantalum capacitor, 220μF, 6.3V, ±10%, 1.2Ohm, case B (3528), -55...+125°C; Impedance: 1.2Ohm; Tolerance: ±10%; TypeDielectric: X7R; TypeCapacitor: Tantalum capacitor; Package: case B (3528); HelpURL: https://www.digikey.com/product-detail/en/avx-corporation/F930J227KBA/478-8166-1-ND/4005570; Temperature: -55...+125°C
footprint CAPT_B
pins: 1, 2

## Tantal_C
designator C?  value 22μF  Voltage: 25V
Manufacturer: AVX; PartNumber: F931E226MCC; ValueManufacturerPartNumber: Tantalum capacitor, 22μF, 25V, ±10%, 1.1Ohm, case C (6032), -55...+125°C; Impedance: 1.1Ohm; Tolerance: ±10%; TypeDielectric: X7R; TypeCapacitor: Tantalum capacitor; Package: case C (6032); HelpURL: https://www.digikey.com/product-detail/en/avx-corporation/F931E226MCC/478-8314-1-ND/4006045; Temperature: -55...+125°C
footprint CAPT_C
pins: 1, 2

## Tantal_D
designator C?  value 47μF  Voltage: 35V
Manufacturer: AVX; PartNumber: TAJD476M035RNJV; ValueManufacturerPartNumber: Tantalum capacitor, 47μF, 35V, ±20%, 900mOhm, case D (7343), -55...+125°C; Impedance: 900mOhm; Tolerance: ±20%; TypeDielectric: X7R; TypeCapacitor: Tantalum capacitor; Package: case D (7343); HelpURL: https://www.digikey.com/product-detail/en/avx-corporation/TAJD476M035RNJV/478-12122-1-ND/8605695; Temperature: -55...+125°C
footprint CAPT_D
pins: 1, 2

## Tantal_E
designator C?  value 100μF  Voltage: 16V
Manufacturer: Vishay; PartNumber: TH3E107K016D0150; ValueManufacturerPartNumber: Tantalum capacitor, 100μF, 16V, ±10%, 600mOhm, case E (7343H), -55...+150°C; Impedance: 600mOhm; Tolerance: ±10%; TypeDielectric: Tantalum; TypeCapacitor: Tantalum capacitor; Package: case E (7343H); HelpURL: https://www.mouser.com/ProductDetail/Vishay-Sprague/TH3E107K016D0150?qs=iY1HX60zZqOnyPT2M1W81g%3D%3D; Temperature: -55...+150°C
footprint CAPT_E
pins: 1, 2

## Trimmer
designator C?  value 4...25pF  Voltage: 50V
Trimmer Capacitors; Manufacturer: Murata; PartNumber: TZB4Z250AB10R00; ValueManufacturerPartNumber: Trimmer Capacitors, 4...25pF, Ceramic, NP0 +/- 300 PPM / C, 50V, 4.5x3.99x3.0mm, -25...+85°C; TemperatureCoefficient: NP0 +/- 300 PPM / C; TypeDielectric: Ceramic; Package: 4.5x3.99x3.0mm; HelpURL: https://eu.mouser.com/ProductDetail/Murata-Electronics/TZB4Z250AB10R00?qs=wdkVSHvM2TEY8Ur8pLMlOQ%3D%3D; Temperature: -25...+85°C; TypeCapacitor: Trimmer Capacitors
footprint CAPT_JOHANSON_1585 (JOHANSON 1585, >8 Turn Trimmer Air Capacitor, Body D 7.11 x H 14.78mm)
footprint CAPT_JOHANSON_9343 (JOHANSON 9343 Serie, Single Turn Trimmer Capacitor, Body 4.49x3.175mm)
footprint CAPT_MURATA_TZB4_TYPE A (MURATA TZB4 Series, Ceramic Trimmer Capacitor, Body 4.5 x 4.2mm)
footprint CAPT_MURATA_TZC3 (MURATA TZC3 Serie, Ceramic Trimmer Capacitor, Body 3.2 x 4.5mm)
footprint CAPT_MURATA_TZV2 (MURATA TZV2 Serie, Ceramic Trimmer Capacitor, Body 2.3 x 3.2mm)
footprint CAPT_MURATA_TZY2 (MURATA TZY2 Serie, Ceramic Trimmer Capacitor, Body 2.5 x 3.2mm)
pins: 1, 2